# EAGLE library part AL5WN-K0 (library AL5WN-K)
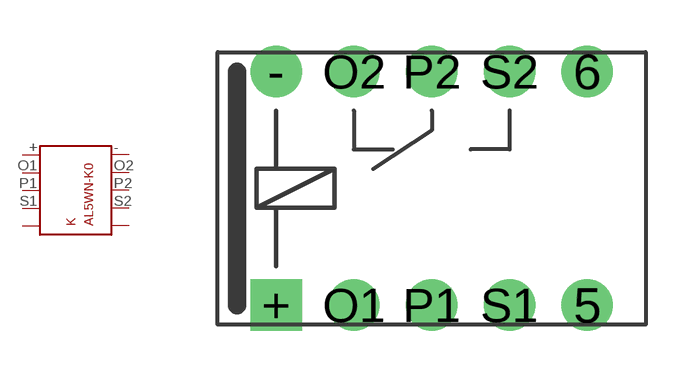
[diagram p1: symbol with the pads of AL5WN-K; footprint AL5WN-K]

Designator prefix K

## AL5WN-K0  [AL5WN-K]
5  5
6  6
+  +
-  -
O1  NC1
O2  NC2
P1  COM1
P2  COM2
S1  NO1
S2  NO2

## Footprint AL5WN-K (pad centres in mm)
drill 0.6 pad 1.676: 5 5.08,-3.81; 6 5.08,3.81; - -5.08,3.81; O1 -2.54,-3.81; O2 -2.54,3.81; P1 0,-3.81; P2 0,3.81; S1 2.54,-3.81; S2 2.54,3.81
drill 0.6 pad 1.676 square: + -5.08,-3.81